# Altium footprint library A_Passive.PcbLib: 83 footprints (part 5 of 6)
Each footprint in its own frame and in the unit in brackets; x right, y up, seen from the top. Pads: shape width x height; smd on the part's side, far side on the other; paste and mask are expansions set on the pad; w line width, h text height; cw(c..) or ccw(c..) is an arc to the next point about the centre after c.
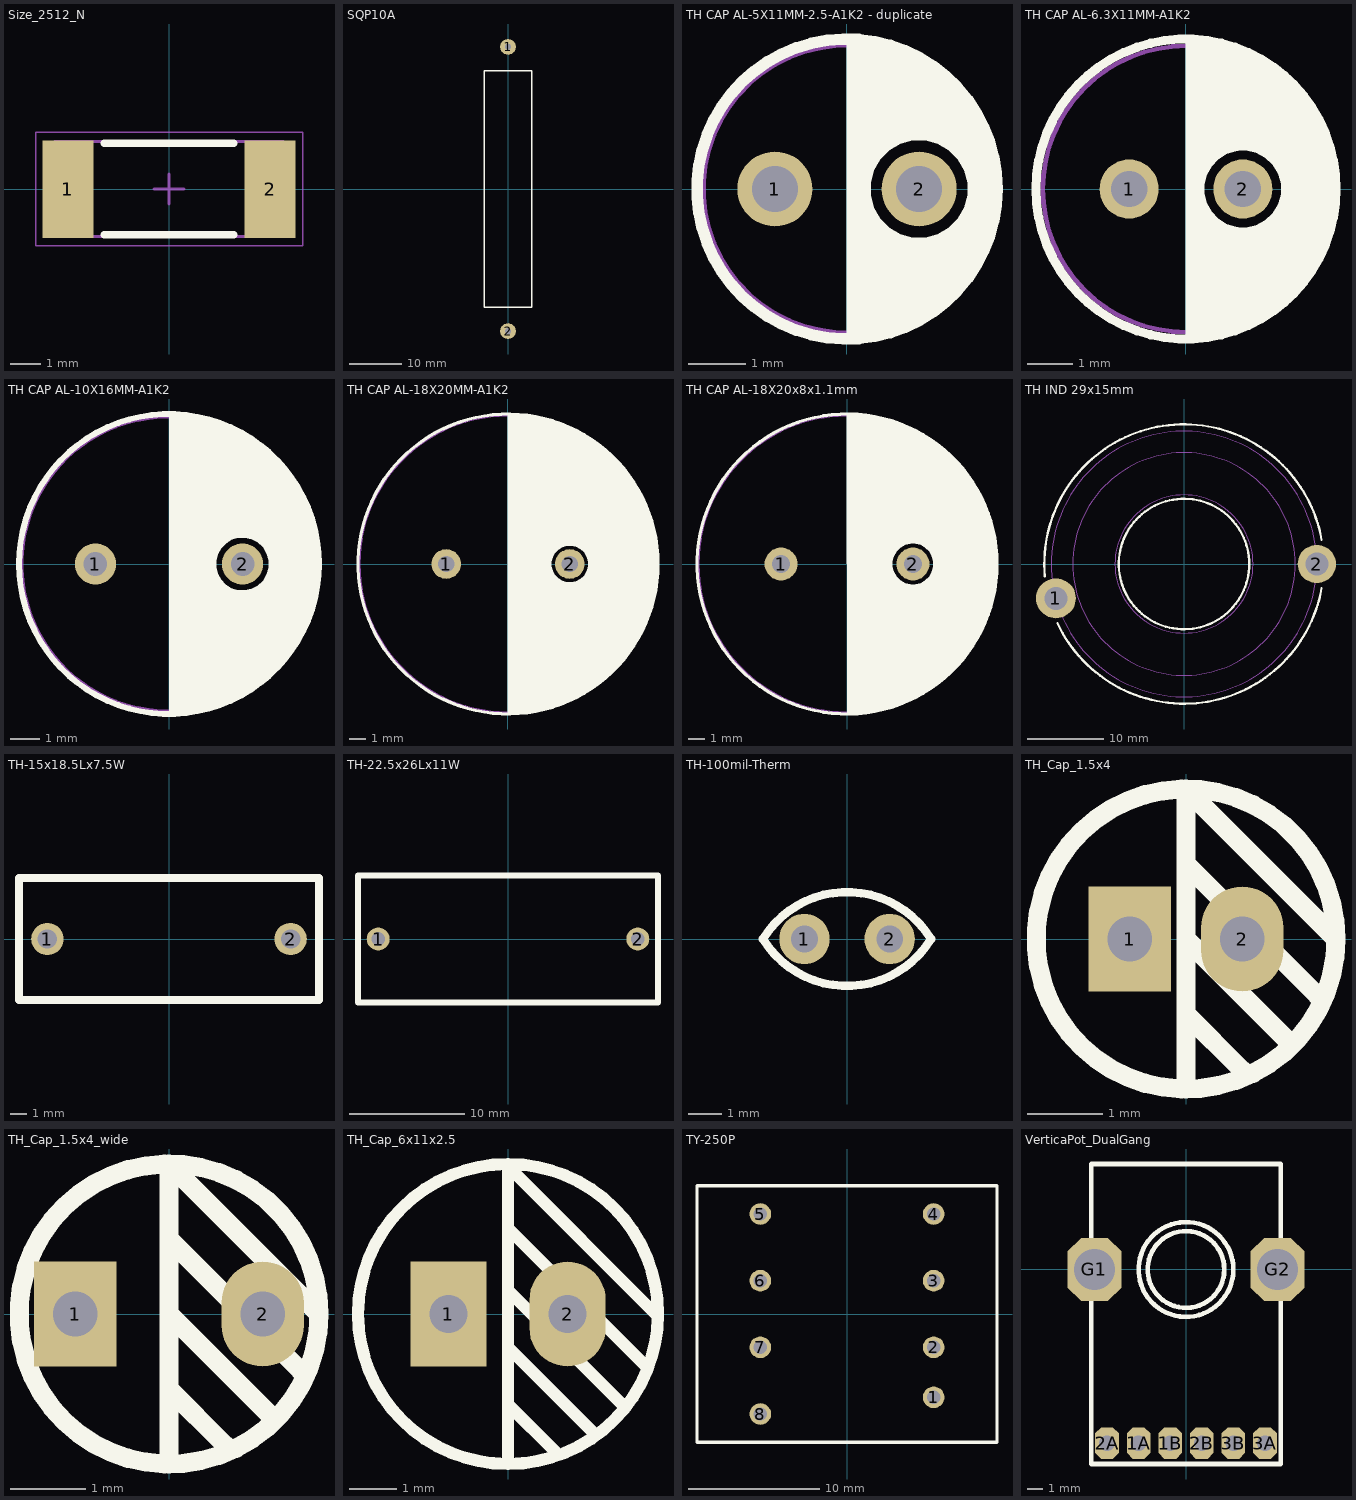
[diagram p4: the footprints below, top view; thin cyan lines are the x and y axes]

## Size_2512_N [mm] "Chip Resistor, 2-Leads, Body 7.62x3.17mm, IPC Medium Density"
height 0.6
pads (2):
  rect 1.7x3.25 smd: 1(-3.375,0) 2(3.375,0)
Top Overlay:
  lines w0.254: -2.15,-1.525 2.15,-1.525 ; -2.15,1.525 2.15,1.525
Mechanical 13:
  lines w0.1: -3.81,-1.59 -3.81,1.59 3.81,1.59 3.81,-1.59 -3.81,-1.59
Mechanical 15:
  lines w0.05: -4.45,-1.9 -4.45,1.9 4.45,1.9 4.45,-1.9 -4.45,-1.9
  lines w0.1: -0.5,0 0.5,0 ; 0,-0.5 0,0.5
3D body "2512_N.step": height 0.6, standoff 0, extent -3.81,-1.59 3.81,1.59

## SQP10A [mm] "Power Resistor Ceramic 48x9.5x9"
pads (2):
  round 3 hole 1.2: 1(0,27) 2(0,-27)
Top Overlay:
  lines w0.254: -4.5,-22.5 4.5,-22.5 4.5,22.5 -4.5,22.5 -4.5,-22.5
3D body: height 10, standoff 0.5, extent -4.5,-22.5 4.5,22.5

## TH CAP AL-5X11MM-2.5-A1K2 - duplicate [mm] "Aluminum Electrolytic Capacitor, Diameter 5mm, Height 11mm, Pitch 2.5mm"
height 11
pads (2):
  round 1.3 hole 0.8: 1(-1.25,0) 2(1.25,0)
Top Overlay:
  circle w0.2: c0,0 r2.6
  region: 1.25,-0.849 1.36,-0.841 1.574,-0.784 1.766,-0.673 1.923,-0.517 2.034,-0.325 2.091,-0.111 2.091,0.111 2.034,0.325 1.923,0.517 1.766,0.674 1.574,0.784 1.36,0.841 1.249,0.849 1.25,0.856 1.25,2.271 1.254,2.278 1.457,2.166 1.817,1.874 2.12,1.523 2.356,1.124 2.518,0.689 2.6,0.233 2.6,-0.231 2.518,-0.687 2.357,-1.122 2.121,-1.521 1.819,-1.872 1.459,-2.165 1.256,-2.277 1.251,-2.268
  region: 0,-2.6 0.164,-2.6 0.489,-2.559 0.807,-2.477 1.112,-2.356 1.256,-2.277 1.251,-2.268 1.251,-0.849 1.14,-0.841 0.926,-0.784 0.734,-0.674 0.577,-0.517 0.466,-0.325 0.409,-0.111 0.409,0.111 0.466,0.325 0.577,0.517 0.734,0.673 0.926,0.784 1.14,0.841 1.25,0.849 1.25,0.856 1.25,2.271 1.254,2.278 1.111,2.357 0.806,2.477 0.489,2.559 0.164,2.6 0,2.6
Mechanical 13:
  circle w0.1: c0,0 r2.5
3D body "User Library-Capacitor Radial Electrolitic.step": height 11.21, standoff -2.5, extent -2.5,-2.5 2.51,2.5

## TH CAP AL-6.3X11MM-A1K2 [mm] "Aluminum Electrolytic Capacitor, Diameter 6.3mm, Height 11mm, Pitch 2.5mm"
height 11
pads (2):
  round 1.3 hole 0.8: 1(-1.25,0) 2(1.25,0)
Top Overlay:
  circle w0.2: c0,0 r3.3
  region: 0,-3.3 0,3.3 0.154,3.3 0.462,3.271 0.765,3.214 1.062,3.128 1.206,3.072 1.2,3.058 1.2,0.849 1.203,0.849 1.096,0.836 0.892,0.771 0.711,0.657 0.564,0.502 0.46,0.314 0.407,0.107 0.407,-0.107 0.46,-0.314 0.564,-0.502 0.711,-0.657 0.892,-0.771 1.096,-0.836 1.203,-0.849 1.2,-0.849 1.2,-3.072 1.207,-3.071 1.063,-3.128 0.766,-3.214 0.462,-3.271 0.155,-3.3
  region: 1.2,-3.072 1.2,-0.849 1.203,-0.849 1.318,-0.847 1.542,-0.798 1.745,-0.691 1.912,-0.533 2.031,-0.336 2.092,-0.115 2.092,0.115 2.031,0.336 1.912,0.533 1.745,0.691 1.542,0.798 1.318,0.847 1.203,0.849 1.2,0.849 1.2,3.058 1.206,3.072 1.436,2.982 1.864,2.734 2.251,2.426 2.587,2.064 2.866,1.655 3.08,1.209 3.226,0.737 3.3,0.248 3.3,-0.247 3.226,-0.736 3.081,-1.208 2.866,-1.654 2.588,-2.063 2.252,-2.425 1.865,-2.734 1.437,-2.981 1.207,-3.072
Mechanical 13:
  circle w0.1: c0,0 r3.15
3D body "User Library-Capacitor Radial Electrolitic (1).step": height 11.21, standoff -2.5, extent -3.15,-3.15 3.16,3.15

## TH CAP AL-10X16MM-A1K2 [mm] "Aluminum Electrolytic Capacitor, Diameter 10mm, Height 16mm, Pitch 5mm"
height 16
pads (2):
  round 1.4 hole 0.8: 1(-2.5,0) 2(2.5,0)
Top Overlay:
  circle w0.2: c0,0 r5.101
  region: 2.45,-4.459 2.45,-0.9 2.45,-0.899 2.572,-0.897 2.81,-0.845 3.024,-0.731 3.201,-0.564 3.327,-0.356 3.392,-0.122 3.392,0.122 3.327,0.356 3.201,0.564 3.024,0.731 2.81,0.845 2.572,0.897 2.45,0.899 2.45,0.9 2.45,4.465 2.453,4.471 2.753,4.307 3.302,3.902 3.792,3.428 4.215,2.892 4.562,2.305 4.829,1.677 5.009,1.019 5.1,0.342 5.1,-0.34 5.009,-1.016 4.829,-1.674 4.563,-2.302 4.216,-2.89 3.794,-3.426 3.304,-3.9 2.755,-4.306 2.456,-4.47
  region: 0,-5.1 0.321,-5.1 0.957,-5.02 1.578,-4.86 2.175,-4.624 2.456,-4.47 2.45,-4.459 2.45,-0.9 2.455,-0.899 2.342,-0.886 2.125,-0.818 1.932,-0.698 1.776,-0.534 1.665,-0.336 1.608,-0.116 1.607,0.111 1.663,0.331 1.773,0.53 1.928,0.695 2.121,0.816 2.337,0.885 2.45,0.899 2.45,0.9 2.45,4.465 2.453,4.471 2.173,4.625 1.577,4.861 0.956,5.02 0.32,5.1 0,5.1
Mechanical 13:
  circle w0.1: c0,0 r5
3D body "User Library-Capacitor Radial Electrolitic (3).step": height 16.21, standoff -2.5, extent -5,-5 5.01,5

## TH CAP AL-18X20MM-A1K2 [mm] "Aluminum Electrolytic Capacitor, Diameter 18mm, Height 20mm, Pitch 7.5mm"
height 16
pads (2):
  round 1.8 hole 1: 1(-3.75,0) 2(3.75,0)
Top Overlay:
  circle w0.2: c0,0 r9.102
  region: 0,-9.1 0.477,-9.1 1.427,-9.001 2.36,-8.803 3.268,-8.508 3.704,-8.314 3.7,-8.305 3.7,-1.122 3.699,-1.122 3.557,-1.107 3.285,-1.023 3.043,-0.873 2.846,-0.667 2.707,-0.418 2.635,-0.142 2.635,0.142 2.707,0.418 2.846,0.667 3.043,0.873 3.285,1.023 3.557,1.107 3.699,1.122 3.7,1.122 3.7,8.31 3.702,8.315 3.267,8.509 2.359,8.803 1.426,9.001 0.477,9.1 0,9.1
  region: 3.699,-1.122 3.85,-1.119 4.144,-1.052 4.41,-0.909 4.628,-0.701 4.783,-0.442 4.863,-0.151 4.863,0.151 4.783,0.442 4.628,0.701 4.41,0.909 4.144,1.052 3.85,1.119 3.699,1.122 3.7,1.122 3.7,8.31 3.702,8.315 4.102,8.137 4.863,7.707 5.58,7.206 6.245,6.638 6.853,6.009 7.397,5.325 7.874,4.592 8.278,3.816 8.605,3.005 8.854,2.167 9.021,1.309 9.105,0.438 9.105,-0.436 9.021,-1.307 8.854,-2.165 8.606,-3.004 8.278,-3.814 7.875,-4.59 7.398,-5.323 6.854,-6.008 6.246,-6.637 5.581,-7.205 4.865,-7.706 4.104,-8.136 3.704,-8.314 3.7,-8.305
Mechanical 13:
  circle w0.1: c0,0 r9
3D body "User Library-Capacitor Radial Electrolitic 5.step": height 20.01, standoff -2.7, extent -9,-9 9.01,9

## TH CAP AL-18X20x8x1.1mm [mm] "Aluminum Electrolytic Capacitor, Diameter 18mm, Height 20mm, Pitch 7.5mm"
height 16
pads (2):
  round 2 hole 1.1: 1(-4,0) 2(4,0)
Top Overlay:
  circle w0.2: c0,0 r9.102
  region: 4,-1.25 4.163,-1.239 4.478,-1.155 4.761,-0.992 4.992,-0.761 5.155,-0.478 5.239,-0.163 5.239,0.163 5.155,0.478 4.992,0.761 4.761,0.992 4.478,1.155 4.163,1.239 4,1.25 4.001,8.169 4.382,7.983 5.104,7.542 5.783,7.036 6.412,6.469 6.985,5.846 7.498,5.172 7.947,4.454 8.326,3.697 8.634,2.908 8.867,2.094 9.023,1.262 9.102,0.419 9.102,-0.427 9.023,-1.27 8.867,-2.102 8.633,-2.916 8.326,-3.705 7.946,-4.462 7.497,-5.18 6.984,-5.853 6.411,-6.476 5.782,-7.043 5.103,-7.549 4.38,-7.99 4,-8.176
  region: 0,-9.1 0.259,-9.1 0.777,-9.071 1.291,-9.012 1.802,-8.925 2.307,-8.808 2.805,-8.663 3.293,-8.489 3.771,-8.288 4.003,-8.174 4,-1.25 3.836,-1.239 3.521,-1.155 3.239,-0.992 3.008,-0.761 2.845,-0.478 2.76,-0.163 2.76,0.163 2.845,0.478 3.008,0.761 3.239,0.992 3.521,1.155 3.836,1.239 4,1.25 4.001,8.169 3.768,8.283 3.291,8.484 2.803,8.658 2.306,8.804 1.801,8.922 1.291,9.01 0.776,9.07 0.259,9.1 0,9.1
Mechanical 13:
  circle w0.1: c0,0 r9
3D body "User Library-Capacitor Radial Electrolitic 5.step": height 20.01, standoff -2.7, extent -9,-9 9.01,9

## TH IND 29x15mm [mm] "Inductor, ID 18mm, OD 29mm, Height 15mm, 2x16AWG"
height 15
pads (2):
  round 5.2 hole 3: 1(-16.683,-4.47)
  round 5 hole 3: 2(17.3,0)
Top Overlay:
  circle w0.3: c0,0 r8.5
  lines w0.3: -18.131,-1.586 cw(c0,0) 17.924,3.16 ; -16.495,-7.692 ccw(c0,0) 17.923,-3.16
Mechanical 13:
  circle w0.1: c0,0 r9
  circle w0.1: c0,0 r14.5
  circle w0.1: c0,0 r17.3
3D body: height 15, standoff 0, extent -17.3,-17.295 17.3,17.295

## TH-15x18.5Lx7.5W [mm]
pads (2):
  round 2 hole 1.2 unplated mask+0.05: 1(-7.5,0) 2(7.5,0)
Top Overlay:
  lines w0.5: -9.25,-3.75 9.25,-3.75 9.25,3.75 -9.25,3.75 -9.25,-3.75
3D body: height 15, standoff 0.09, extent -9.25,-3.75 9.25,3.75

## TH-22.5x26Lx11W [mm]
pads (2):
  round 2 hole 1.2 unplated mask+0.05: 1(-11.25,0) 2(11.25,0)
Top Overlay:
  lines w0.5: -13,-5.5 13,-5.5 13,5.5 -13,5.5 -13,-5.5
3D body: height 24.82, standoff 0.09, extent -13,5.5 -13,5.5
3D body: height 20.5, standoff 0.09, extent -13,-5.5 13,5.5

## TH-100mil-Therm [mm]
pads (2):
  round 1.5 hole 0.8: 1(-1.27,0) 2(1.27,0)
Top Overlay:
  lines w0.254: -2.504,0 ccw(c-0.002,1.534) 2.5,0 ccw(c-0.002,-1.534) -2.504,0

## TH_Cap_1.5x4 [mm]
pads (2):
  rect 1.1x1.4 hole 0.6: 1(-0.75,0)
  oval 1.1x1.4 hole 0.6: 2(0.75,0)
Top Overlay:
  circle w0.254: c0,0 r2
  lines w0.254: 0,-2 0,2 2,0 ; 0,0 1.4,-1.4 ; 0,1 1.75,-0.75 ; 0.75,-1.75 0,-1 ; 0,-1 0,-1
3D body: height 7.2, standoff 0.2, extent -2,-2 2,2

## TH_Cap_1.5x4_wide [mm]
pads (2):
  rect 1.1x1.4 hole 0.6: 1(-1.25,0)
  oval 1.1x1.4 hole 0.6: 2(1.25,0)
Top Overlay:
  circle w0.254: c0,0 r2
  lines w0.254: 0,-2 0,2 2,0 ; 0,0 1.4,-1.4 ; 0,1 1.75,-0.75 ; 0.75,-1.75 0,-1 ; 0,-1 0,-1
3D body: height 7.2, standoff 0.2, extent -2,-2 2,2

## TH_Cap_6x11x2.5 [mm]
pads (2):
  rect 1.6x2.2 hole 0.8: 1(-1.25,0)
  oval 1.6x2.2 hole 0.8: 2(1.25,0)
Top Overlay:
  circle w0.254: c0,0 r3.15
  lines w0.254: 0,-3.1 0,3.1 3.125,-0.025 ; 0,-1.9 1,-2.9 ; 0,-0.7 1.8,-2.5 ; 0,0.5 2.456,-1.956 ; 0,1.8 2.9,-1.1
3D body: height 11.2, standoff 0.2, extent -3.15,-3.147 3.15,3.147

## TY-250P [mil]
pads (8):
  round 65 hole 40 unplated paste+0: 1(260,-250) 2(260,-100) 3(260,100) 4(260,300) 5(-260,300) 6(-260,100) 7(-260,-100) 8(-260,-300)
Top Overlay:
  lines w10: -450,-385 -450,385 450,385 450,-385 -450,-385
3D body "Triad Magnetics-TY-250P.STEP": height 685, standoff -125, extent -450,-385 450,385

## VerticaPot_DualGang [mm] "PTV112-4420A or Similar to HS8"
pads (8):
  oct 1.5x2 hole 1: 1A(-3,-11) 1B(-1,-11) 2A(-5,-11) 2B(1,-11) 3A(5,-11) 3B(3,-11)
  oct 3.4x4 hole 2.6: G1(-5.8,0) G2(5.8,0)
Top Overlay:
  circle w0.3: c0,0 r3
  circle w0.3: c0,0 r2.428
  lines w0.3: -6,-12.32 -6,6.68 6,6.68 6,-12.32 -6,-12.32
3D body "ptv112-3417a-xxxxx.stp": height 25, standoff -3.8, extent -7.2,-11.2 7.2,6.7